# Altium footprint library ANT 库.PcbLib: 3 footprints
Each footprint in its own frame and in the unit in brackets; x right, y up, seen from the top. Pads: shape width x height; smd on the part's side, far side on the other; paste and mask are expansions set on the pad; w line width, h text height; cw(c..) or ccw(c..) is an arc to the next point about the centre after c.
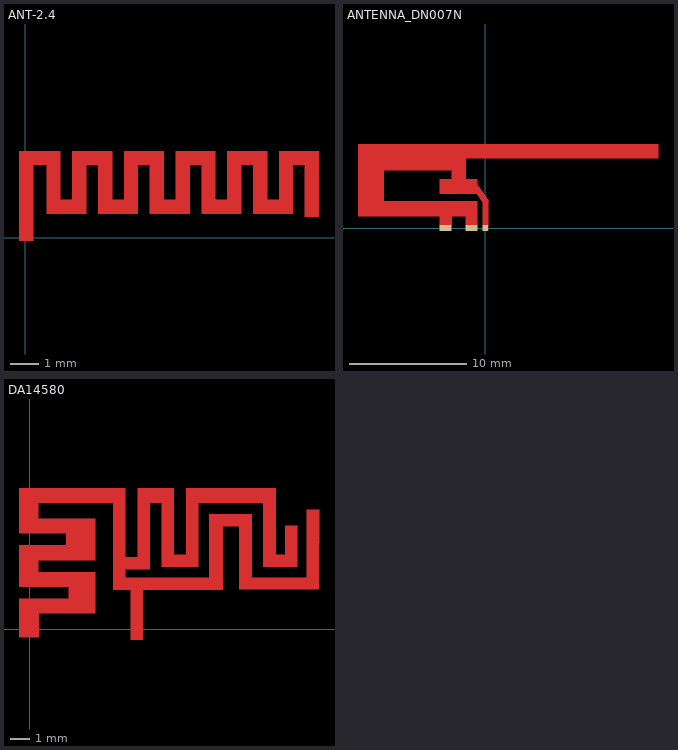
[diagram p0: the footprints below, top view; thin cyan lines are the x and y axes]

## ANT-2.4 [mm]
Top Layer:
  region: 3.939,3.023 3.439,3.023 3.439,0.823 3.939,0.823
  region: 8.839,3.023 8.839,2.523 10.239,2.523 10.239,3.023
  region: 7.039,3.023 7.039,2.523 8.439,2.523 8.439,3.023
  region: 9.339,3.023 8.839,3.023 8.839,0.823 9.339,0.823
  region: 8.439,3.023 7.939,3.023 7.939,0.823 8.439,0.823
  region: 7.539,3.023 7.039,3.023 7.039,0.823 7.539,0.823
  region: 5.239,3.023 5.239,2.523 6.639,2.523 6.639,3.023
  region: 6.639,3.023 6.139,3.023 6.139,0.823 6.639,0.823
  region: 3.439,3.023 3.439,2.523 4.839,2.523 4.839,3.023
  region: 10.239,3.023 9.739,3.023 9.739,0.723 10.239,0.723
  region: 5.739,3.023 5.239,3.023 5.239,0.823 5.739,0.823
  region: 7.939,1.323 7.939,0.823 9.339,0.823 9.339,1.323
  region: 6.139,1.323 6.139,0.823 7.539,0.823 7.539,1.323
  region: 4.839,3.023 4.339,3.023 4.339,0.823 4.839,0.823
  region: 4.339,1.323 4.339,0.823 5.739,0.823 5.739,1.323
  region: 1.639,3.023 1.639,2.523 3.039,2.523 3.039,3.023
  region: 2.139,3.023 1.639,3.023 1.639,0.823 2.139,0.823
  region: 2.539,1.323 2.539,0.823 3.939,0.823 3.939,1.323
  region: 3.039,3.023 2.539,3.023 2.539,0.823 3.039,0.823
  region: 1.239,3.023 0.739,3.023 0.739,0.823 1.239,0.823
  rectangle: -0.211,-0.109 0.289,3.023
  region: 0.739,1.323 0.739,0.823 2.139,0.823 2.139,1.323
  region: -0.211,3.023 -0.211,2.523 1.239,2.523 1.239,3.023

## ANTENNA_DN007N [mm]
pads (3):
  rect 0.46x0.5 smd: 1(0,0)
  rect 1x0.5 smd: 2(-1.18,0) 3(-3.38,0)
Top Layer:
  region: -10.86,0.99 -10.86,7.16 14.72,7.16 14.72,5.95 -1.68,5.95 -1.68,4.15 -0.68,4.15 -0.68,3.648 0.23,2.328 0.23,0.25 -0.23,0.25 -0.23,2.185 -0.751,2.94 -3.88,2.94 -3.88,4.15 -2.88,4.15 -2.88,4.95 -8.68,4.95 -8.68,2.28 -0.68,2.28 -0.68,0.25 -1.68,0.25 -1.68,0.99 -2.88,0.99 -2.88,0.25 -3.88,0.25 -3.88,0.99
Mechanical 11:
  text "1" at -0.08,0 h0.2
  text "2" at -1.26,0 h0.2
  text "3" at -3.46,0 h0.2
Mechanical 13:
  lines w0.025: -0.68,3.648 0.23,2.328
Mechanical 16:
  lines w0.025: -3.88,-0.25 -3.88,0.25 ; 0.23,-0.25 0.23,0.25
  text "MICHAL BLACHUCKI" at -10.645,1.507 h0.2
  text "ROBERT MITAL" at -10.645,1.907 h0.2
  text "2011-09-19" at -10.645,1.157 h0.2

## DA14580 [mm]
Top Layer:
  region: 5.316,-0.565 5.316,2.065 5.946,2.065 5.946,-0.565
  region: -0.554,-0.435 -0.554,0.835 0.466,0.835 0.466,-0.435
  region: -0.554,0.835 3.436,0.835 0.466,0.835
  region: -0.554,0.835 -0.554,1.595 3.436,1.595 3.436,0.835
  region: -0.554,1.595 2.046,1.595 3.436,1.595
  region: 5.316,2.065 10.136,2.065 5.946,2.065
  region: 5.316,2.065 4.396,2.065 10.136,2.065
  region: 15.186,2.085 11.006,2.085 15.186,2.085
  region: 2.046,1.595 2.046,2.225 3.436,2.225 3.436,1.595
  region: 2.046,2.225 -0.564,2.225 3.436,2.225
  region: 4.396,2.065 4.396,2.705 10.136,2.705 10.136,2.065
  region: 11.006,2.085 11.006,2.705 15.186,2.705 15.186,2.085
  region: 5.026,2.705 9.436,2.705 10.136,2.705
  region: 11.656,2.705 14.546,2.705 15.186,2.705
  region: -0.564,2.225 -0.564,2.995 3.436,2.995 3.436,2.225
  region: -0.564,2.995 0.456,2.995 3.436,2.995
  region: 4.396,2.705 4.396,3.145 5.026,3.145 5.026,2.705
  region: 4.396,3.145 6.296,3.145 5.026,3.145
  region: 8.836,3.275 6.936,3.275 8.836,3.275
  region: 14.046,3.275 12.266,3.275 14.046,3.275
  region: -0.564,2.995 -0.564,3.625 0.456,3.625 0.456,2.995
  region: -0.564,3.625 3.436,3.625 0.456,3.625
  region: 4.396,3.145 4.396,3.785 6.296,3.785 6.296,3.145
  region: 5.026,3.785 5.666,3.785 6.296,3.785
  region: 6.936,3.275 6.936,3.915 8.836,3.915 8.836,3.275
  region: 12.266,3.275 12.266,3.915 14.046,3.915 14.046,3.275
  region: 7.566,3.915 8.206,3.915 8.836,3.915
  region: 12.906,3.915 13.406,3.915 14.046,3.915
  region: -0.564,3.625 -0.564,4.395 3.436,4.395 3.436,3.625
  region: -0.564,4.395 1.916,4.395 3.436,4.395
  region: 1.916,4.395 1.916,5.025 3.436,5.025 3.436,4.395
  region: 1.916,5.025 -0.564,5.025 3.436,5.025
  region: 9.436,2.705 9.436,5.395 10.136,5.395 10.136,2.705
  region: 9.436,5.395 11.006,5.395 10.136,5.395
  region: 11.006,2.705 11.006,5.395 11.656,5.395 11.656,2.705
  region: 13.406,3.915 13.406,5.435 14.046,5.435 14.046,3.915
  region: 13.406,5.435 14.046,5.435
  region: -0.564,5.025 -0.564,5.785 3.436,5.785 3.436,5.025
  region: -0.564,5.785 0.456,5.785 3.436,5.785
  region: 9.436,5.395 9.436,6.045 11.656,6.045 11.656,5.395
  region: 9.436,6.045 11.656,6.045
  region: 14.546,2.705 14.546,6.275 15.186,6.275 15.186,2.705
  region: 14.546,6.275 15.186,6.275
  region: -0.564,5.785 -0.564,6.645 0.456,6.645 0.456,5.785
  region: 5.666,3.785 5.666,6.645 6.296,6.645 6.296,3.785
  region: 8.206,3.915 8.206,6.645 8.836,6.645 8.836,3.915
  region: -0.564,6.645 4.396,6.645 0.456,6.645
  region: 4.396,3.785 4.396,6.645 5.026,6.645 5.026,3.785
  region: 5.666,6.645 6.936,6.645 6.296,6.645
  region: 6.936,3.915 6.936,6.645 7.566,6.645 7.566,3.915
  region: 8.206,6.645 12.266,6.645 8.836,6.645
  region: 12.266,3.915 12.266,6.645 12.906,6.645 12.906,3.915
  region: -0.564,6.645 -0.564,7.405 5.026,7.405 5.026,6.645
  region: 5.666,6.645 5.666,7.405 7.566,7.405 7.566,6.645
  region: 8.206,6.645 8.206,7.405 12.906,7.405 12.906,6.645
  region: -0.564,7.405 5.026,7.405
  region: 5.666,7.405 7.566,7.405
  region: 8.206,7.405 12.906,7.405